# Altium footprint library l2.PcbLib: 2 footprints
Each footprint in its own frame and in the unit in brackets; x right, y up, seen from the top. Pads: shape width x height; smd on the part's side, far side on the other; paste and mask are expansions set on the pad; w line width, h text height; cw(c..) or ccw(c..) is an arc to the next point about the centre after c.
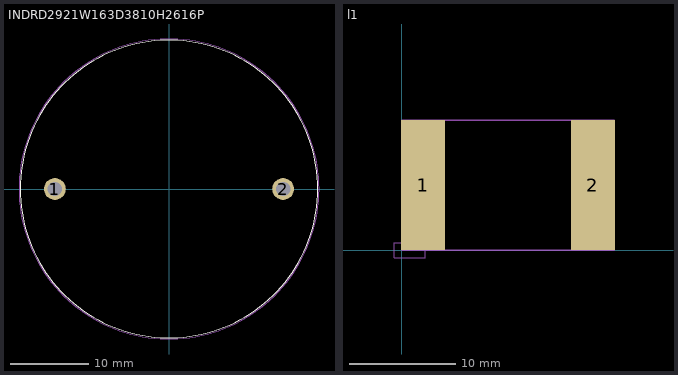
[diagram p0: the footprints below, top view; thin cyan lines are the x and y axes]

## INDRD2921W163D3810H2616P [mm]
pads (2):
  round 2.8 hole 1.85: 1(-14.605,0) 2(14.605,0)
Top Overlay:
  circle w0.127: c0,0 r19.05
Mechanical 15:
  circle w0.127: c0,0 r19.2

## l1 [mm] "bobina SFM"
pads (2):
  rect 4.165x12.19 smd: 1(2,6.095) 2(17.94,6.095)
Mechanical 13:
  lines w0.127: 0,12.19 0,0 19.94,0 ; 0,12.192 19.939,12.192 19.939,0
Mechanical 15:
  lines w0.05: -0.711,-0.715 -0.711,0.715 2.219,0.715 2.219,-0.715 -0.711,-0.715